# Altium footprint library BMS Interface Board.PcbLib: 17 footprints (part 1 of 2)
Each footprint in its own frame and in the unit in brackets; x right, y up, seen from the top. Pads: shape width x height; smd on the part's side, far side on the other; paste and mask are expansions set on the pad; w line width, h text height; cw(c..) or ccw(c..) is an arc to the next point about the centre after c.
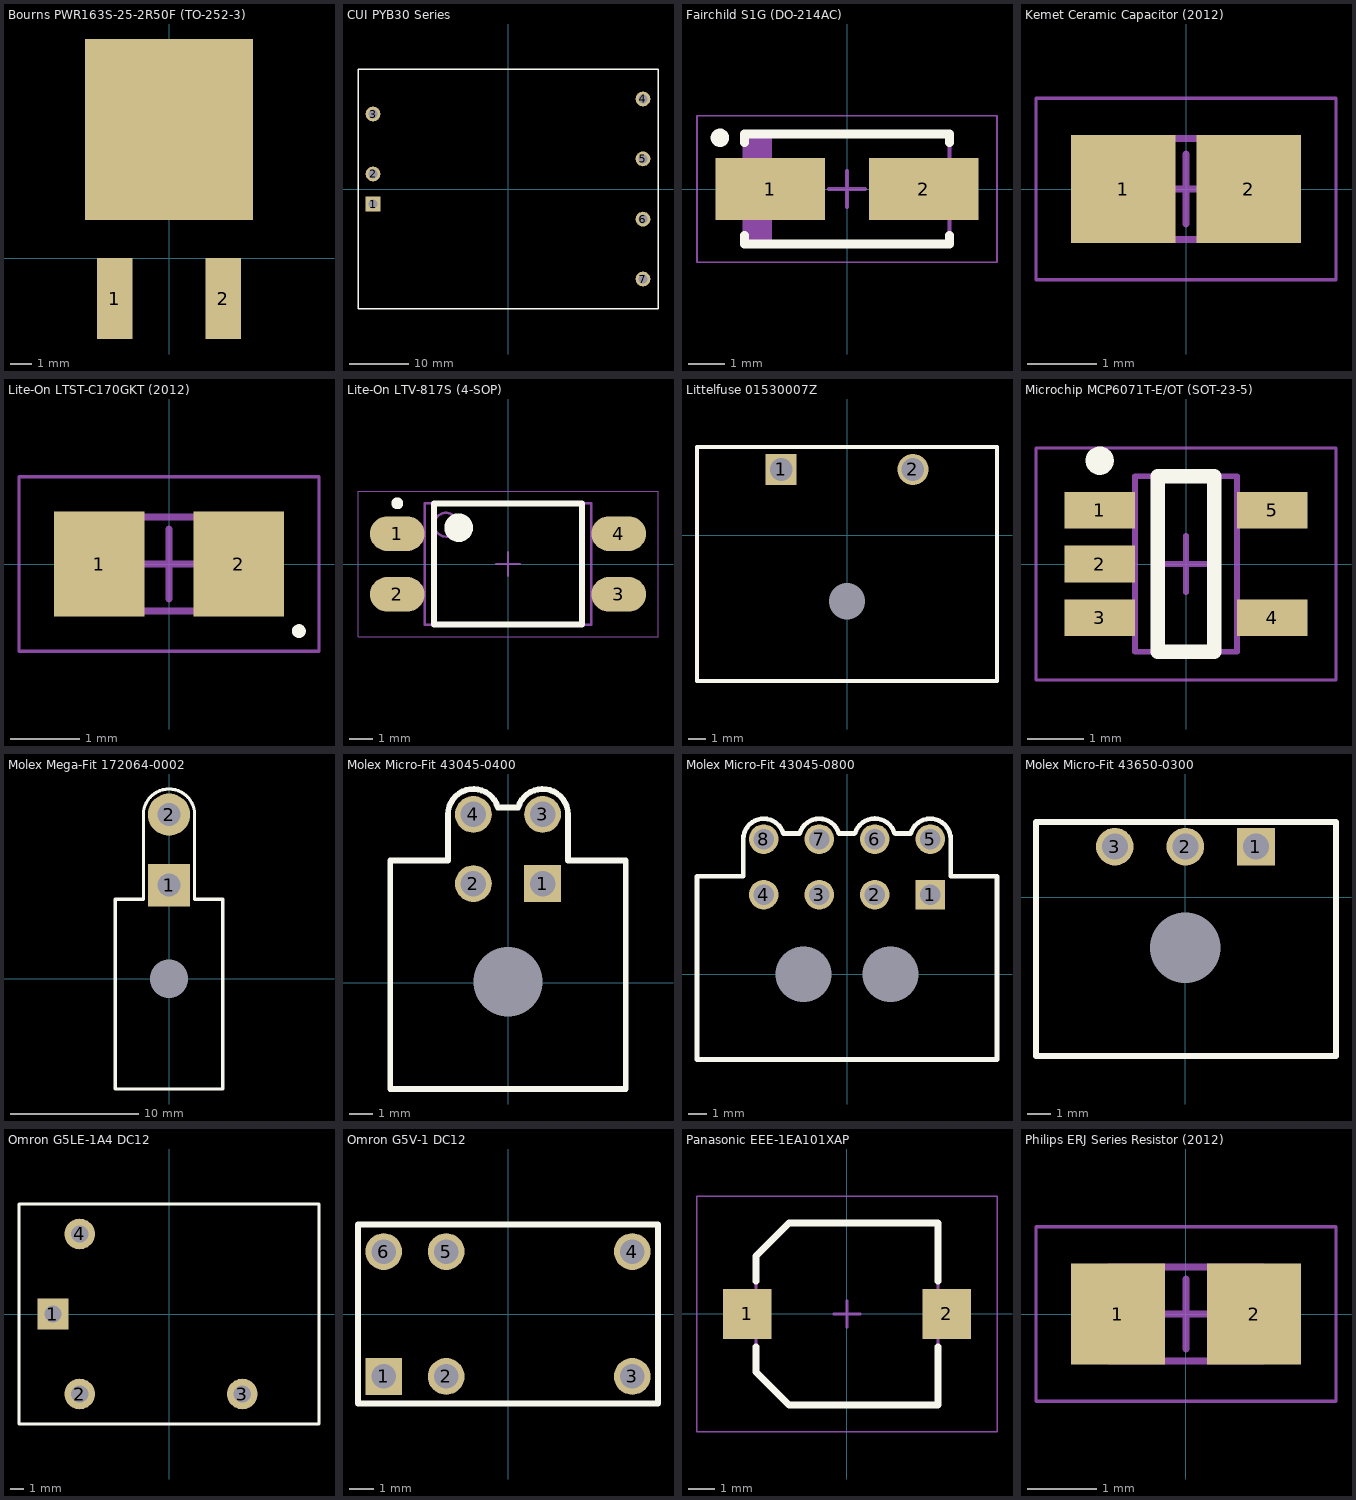
[diagram p0: the footprints below, top view; thin cyan lines are the x and y axes]

## Bourns PWR163S-25-2R50F (TO-252-3) [mm] "25W 1% Thick Film Power Resistor"
height 2.8
pads (3):
  rect 1.65x3.8 smd: 1(-2.55,-1.9) 2(2.55,-1.9)
  rect 7.9x8.5 smd: ""(0,6.05)

## CUI PYB30 Series [mm] "+/-15V 1A DC-DC Converter"
height 11.8
pads (7):
  rect 2.5x2.5 hole 1.5: 1(-22.85,-2.55)
  round 2.5 hole 1.5: 2(-22.85,2.55) 3(-22.85,12.7) 4(22.85,15.25) 5(22.85,5.1) 6(22.85,-5.1) 7(22.85,-15.25)
Top Overlay:
  lines w0.25: -25.4,-20.3 25.4,-20.3 25.4,20.3 -25.4,20.3 -25.4,-20.3
3D body: height 11.8, standoff -4.1, extent -25.4,-20.3 25.4,20.3

## Fairchild S1G (DO-214AC) [mm] "400V 1A Rectifying Diode"
height 2.2
pads (2):
  rect 3x1.7 smd: 1(-2.1,0) 2(2.1,0)
Top Overlay:
  circle w0.25: c-3.475,1.4 r0.125
  lines w0.25: -2.8,-1.275 -2.8,-1.5 2.8,-1.5 2.8,-1.275 ; -2.8,1.275 -2.8,1.5 2.8,1.5 2.8,1.275
Mechanical 13:
  rectangle: -2.8,-1.475 -2.047,1.475
  lines w0.1: -2.8,-1.475 -2.8,1.475 2.8,1.475 2.8,-1.475 -2.8,-1.475
Mechanical 15:
  lines w0.05: -4.1,-2 4.1,-2 4.1,2 -4.1,2 -4.1,-2
  lines w0.1: -0.5,0 0.5,0 ; 0,-0.5 0,0.5
3D body: height 2.2, standoff 0, extent -2.8,-1.475 2.8,1.475

## Kemet Ceramic Capacitor (2012) [mm] "Ceramic Capacitor"
height 1.4
pads (2):
  rect 1.5x1.55 smd: 1(-0.9,0) 2(0.9,0)
Mechanical 13:
  lines w0.1: -1.1,-0.725 -1.1,0.725 1.1,0.725 1.1,-0.725 -1.1,-0.725
Mechanical 15:
  lines w0.05: -2.15,-1.3 -2.15,1.3 2.15,1.3 2.15,-1.3 -2.15,-1.3
  lines w0.1: -0.5,0 0.5,0 ; 0,-0.5 0,0.5
3D body: height 1.4, standoff 0, extent -0.6,-0.725 0.6,0.725
3D body: height 1.4, standoff 0, extent -1.1,-0.725 -0.6,0.725
3D body: height 1.4, standoff 0, extent 0.6,-0.725 1.1,0.725

## Lite-On LTST-C170GKT (2012) [mm] "Ultra-Bright Green LED"
height 1.1
pads (2):
  rect 1.3x1.5 smd: 1(-1,0) 2(1,0)
Top Overlay:
  circle w0.1: c1.862,-0.962 r0.05
Mechanical 13:
  lines w0.1: -1.05,-0.675 1.05,-0.675 1.05,0.675 -1.05,0.675 -1.05,-0.675
Mechanical 15:
  lines w0.05: -2.15,-1.25 -2.15,1.25 2.15,1.25 2.15,-1.25 -2.15,-1.25
  lines w0.1: -0.5,0 0.5,0 ; 0,-0.5 0,0.5
3D body: height 1.1, standoff 0, extent 0.55,-0.675 1.05,0.675
3D body: height 1.1, standoff 0, extent -1.05,-0.675 -0.55,0.675
3D body: height 1.1, standoff 0, extent -0.55,-0.675 0.55,0.675

## Lite-On LTV-817S (4-SOP) [mm] "Photocoupler"
height 4.6
pads (4):
  oval 2.3x1.45 smd: 1(-4.65,1.275) 2(-4.65,-1.275) 3(4.65,-1.275) 4(4.65,1.275)
Top Overlay:
  circle w0.6: c-2.075,1.525 r0.3
  circle w0.25: c-4.65,2.55 r0.125
  lines w0.25: -3.1,-2.55 3.1,-2.55 3.1,2.55 -3.1,2.55 -3.1,-2.55
Mechanical 13:
  circle w0.1: c-2.6,1.65 r0.5
  lines w0.1: -3.5,-2.55 3.5,-2.55 3.5,2.55 -3.5,2.55 -3.5,-2.55
Mechanical 15:
  lines w0.05: -6.3,-3.05 6.3,-3.05 6.3,3.05 -6.3,3.05 -6.3,-3.05
  lines w0.1: -0.5,0 0.5,0 ; 0,-0.5 0,0.5
3D body: height 4.6, standoff 0.05, extent -3.5,-2.55 3.5,2.55

## Littelfuse 01530007Z [mm] "MINI Automotive PCB Fuseholder"
height 7.65
pads (3):
  rect 1.8x1.8 hole 1.3: 1(-3.8,3.8)
  round 1.8 hole 1.3: 2(3.8,3.8)
  round 0 hole 2.1: ""(0,-3.8)
Top Overlay:
  lines w0.25: -8.65,-8.4 8.65,-8.4 8.65,5.1 -8.65,5.1 -8.65,-8.4
3D body: height 7.65, standoff 0, extent -8.6,-8.4 8.6,5.1

## Microchip MCP6071T-E/OT (SOT-23-5) [mm] "Low Offset Op-Amp"
height 1.45
pads (5):
  rect 1.25x0.65 smd: 1(-1.525,0.95) 2(-1.525,0) 3(-1.525,-0.95) 4(1.525,-0.95) 5(1.525,0.95)
Top Overlay:
  circle w0.25: c-1.525,1.825 r0.125
  lines w0.25: -0.5,-1.55 -0.5,1.55 0.5,1.55 0.5,-1.55 -0.5,-1.55
Mechanical 13:
  lines w0.1: -0.9,-1.55 0.9,-1.55 0.9,1.55 -0.9,1.55 -0.9,-1.55
Mechanical 15:
  lines w0.05: -2.65,-2.05 2.65,-2.05 2.65,2.05 -2.65,2.05 -2.65,-2.05
  lines w0.1: -0.5,0 0.5,0 ; 0,-0.5 0,0.5
3D body: height 1.45, standoff 0, extent -0.9,-1.55 0.9,1.55

## Molex Mega-Fit 172064-0002 [mm] "2-Pin Right-Angle Locking Male Header"
height 16.8
pads (3):
  rect 3.3x3.3 hole 1.8: 1(0,7.3)
  round 3.3 hole 1.8: 2(0,12.8)
  round 0 hole 3: ""(0,0)
Top Overlay:
  lines w0.25: -4.2,-8.6 -4.2,6.2 -2,6.2 -2,12.8 cw(c0,12.8) 2,12.8 2,6.2 4.2,6.2 4.2,-8.6 -4.2,-8.6
3D body: height 14.55, standoff -3.58, extent -4.2,-8.581 4.149,13.381

## Molex Micro-Fit 43045-0400 [mm] "4-Pin Right-Angle Locking Male Header"
height 8.8
pads (5):
  rect 1.6x1.6 hole 1.1: 1(1.5,4.3)
  round 1.6 hole 1.1: 2(-1.5,4.3) 3(1.5,7.3) 4(-1.5,7.3)
  round 0 hole 3: ""(0,0.05)
Top Overlay:
  lines w0.25: -0.443,7.603 ccw(c-1.5,7.3) -2.6,7.3 -2.6,5.3 -5.1,5.3 -5.1,-4.6 5.1,-4.6 5.1,5.3 2.6,5.3 2.6,7.3 ccw(c1.5,7.3) 0.443,7.603 ; -0.4,7.6 0.4,7.6
3D body: height 8.73, standoff -3.21, extent -5.075,-4.65 5.075,7.59

## Molex Micro-Fit 43045-0800 [mm] "8-Pin Right-Angle Locking Male Header"
height 8.8
pads (10):
  rect 1.6x1.6 hole 1.1: 1(4.5,4.3)
  round 1.6 hole 1.1: 2(1.5,4.3) 3(-1.5,4.3) 4(-4.5,4.3) 5(4.5,7.3) 6(1.5,7.3) 7(-1.5,7.3) 8(-4.5,7.3)
  round 0 hole 3: ""(-2.35,0) ""(2.35,0)
Top Overlay:
  lines w0.25: -3.443,7.603 ccw(c-4.5,7.3) -5.6,7.3 -5.6,5.3 -8.1,5.3 -8.1,-4.6 8.1,-4.6 8.1,5.3 5.6,5.3 5.6,7.3 ccw(c4.5,7.3) 3.443,7.603 ; -3.4,7.6 -2.6,7.6 ; -2.557,7.603 cw(c-1.5,7.3) -0.443,7.603 ; -0.4,7.6 0.4,7.6 ; 0.433,7.606 cw(c1.5,7.3) 2.567,7.606 ; 2.6,7.6 3.4,7.6
3D body: height 8.73, standoff -3.21, extent -8.075,-4.64 8.075,7.6

## Molex Micro-Fit 43650-0300 [mm] "3-Pin Right-Angle Locking Male Header"
height 5.6
pads (4):
  rect 1.6x1.6 hole 1.1: 1(3,2.15)
  round 1.6 hole 1.1: 2(0,2.15) 3(-3,2.15)
  round 0 hole 3: ""(0,-2.15)
Top Overlay:
  lines w0.25: -6.35,-6.75 -6.35,3.2 6.4,3.2 6.4,-6.75 -6.35,-6.75
3D body: height 5.54, standoff -3.37, extent -6.325,-6.75 6.325,3.15

## Omron G5LE-1A4 DC12 [mm] "12VDC 10A SPST-NO Relay"
height 19
pads (4):
  rect 2.3x2.3 hole 1.3: 1(-8.7,0)
  round 2.3 hole 1.3: 2(-6.7,-6) 3(5.5,-6) 4(-6.7,6)
Top Overlay:
  lines w0.25: -11.25,-8.25 11.25,-8.25 11.25,8.25 -11.25,8.25 -11.25,-8.25
3D body: height 19, standoff 0, extent -11.2,-8.2 11.2,8.2

## Omron G5V-1 DC12 [mm] "12VDC 1A SPDT Relay"
height 10
pads (6):
  rect 1.5x1.5 hole 1: 1(-5.075,-2.55)
  round 1.5 hole 1: 2(-2.525,-2.55) 3(5.075,-2.55) 4(5.075,2.55) 5(-2.525,2.55) 6(-5.075,2.55)
Top Overlay:
  lines w0.25: -6.125,-3.65 -6.125,3.65 6.125,3.65 6.125,-3.65 -6.125,-3.65
3D body: height 10, standoff 0, extent -6.1,-3.6 6.1,3.6

## Panasonic EEE-1EA101XAP [mm] "100uF 25V Aluminium Electrolytic Capacitor"
height 8
pads (2):
  rect 1.8x1.85 smd: 1(-3.725,0) 2(3.725,0)
Top Overlay:
  lines w0.25: -3.4,-1.225 -3.4,-2.163 -2.163,-3.4 3.4,-3.4 3.4,-1.225 ; -3.4,1.225 -3.4,2.163 -2.163,3.4 3.4,3.4 3.4,1.225
Mechanical 13:
  lines w0.1: -3.4,-2.163 -3.4,2.163 -2.163,3.4 3.4,3.4 3.4,-3.4 -2.163,-3.4 -3.4,-2.163
Mechanical 15:
  lines w0.05: -5.6,-4.4 5.6,-4.4 5.6,4.4 -5.6,4.4 -5.6,-4.4
  lines w0.1: -0.5,0 0.5,0 ; 0,-0.5 0,0.5
3D body: height 8, standoff 0, extent -3.4,-3.4 3.373,3.387
3D body: height 2.67, standoff 0, extent -3.4,-3.4 3.4,3.4

## Philips ERJ Series Resistor (2012) [mm] "Thick Film Resistor"
height 0.7
pads (2):
  rect 1.35x1.45 smd: 1(-0.975,0) 2(0.975,0)
Mechanical 13:
  lines w0.1: -1.1,-0.675 1.1,-0.675 1.1,0.675 -1.1,0.675 -1.1,-0.675
Mechanical 15:
  lines w0.05: -2.15,-1.25 -2.15,1.25 2.15,1.25 2.15,-1.25 -2.15,-1.25
  lines w0.1: -0.5,0 0.5,0 ; 0,-0.5 0,0.5
3D body: height 0.7, standoff 0, extent 0.7,-0.675 1.1,0.675
3D body: height 0.7, standoff 0, extent -1.1,-0.675 -0.7,0.675
3D body: height 0.7, standoff 0, extent -0.7,-0.675 0.7,0.675